# Altium footprint library footprints.PcbLib: 160 footprints (part 4 of 10)
Each footprint in its own frame and in the unit in brackets; x right, y up, seen from the top. Pads: shape width x height; smd on the part's side, far side on the other; paste and mask are expansions set on the pad; w line width, h text height; cw(c..) or ccw(c..) is an arc to the next point about the centre after c.
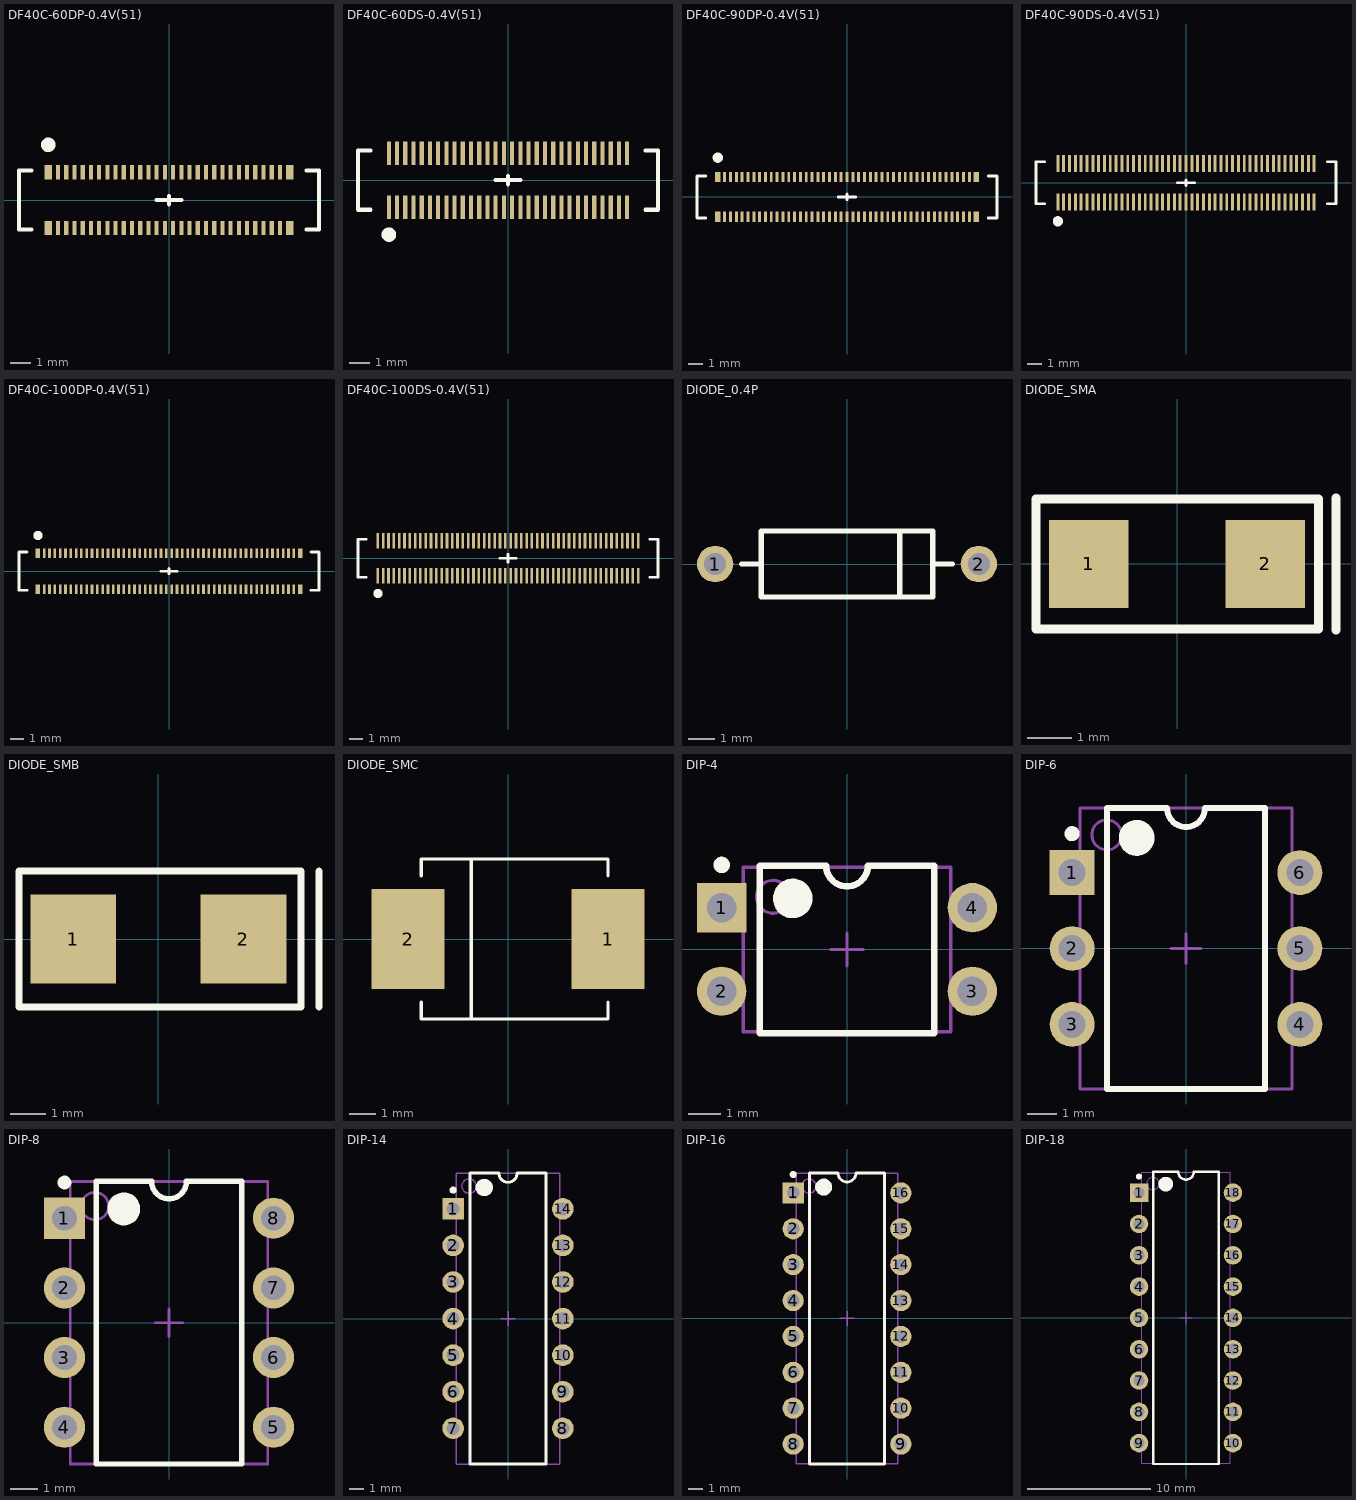
[diagram p3: the footprints below, top view; thin cyan lines are the x and y axes]

## DF40C-60DP-0.4V(51) [mm] "Board to Board Header 60pin"
height 1.14
pads (60):
  rect 0.35x0.7 smd: A1(-5.875,1.36) A30(5.875,1.36) B1(-5.875,-1.36) B30(5.875,-1.36)
  rect 0.2x0.7 smd: A2(-5.4,1.36) A3(-5,1.36) A4(-4.6,1.36) A5(-4.2,1.36) A6(-3.8,1.36) A7(-3.4,1.36) A8(-3,1.36) A9(-2.6,1.36) A10(-2.2,1.36) A11(-1.8,1.36) A12(-1.4,1.36) A13(-1,1.36) A14(-0.6,1.36) A15(-0.2,1.36) A16(0.2,1.36) A17(0.6,1.36) A18(1,1.36) A19(1.4,1.36) A20(1.8,1.36) A21(2.2,1.36) A22(2.6,1.36) A23(3,1.36) A24(3.4,1.36) A25(3.8,1.36) A26(4.2,1.36) A27(4.6,1.36) A28(5,1.36) A29(5.4,1.36) B2(-5.4,-1.36) B3(-5,-1.36) B4(-4.6,-1.36) B5(-4.2,-1.36) B6(-3.8,-1.36) B7(-3.4,-1.36) B8(-3,-1.36) B9(-2.6,-1.36) B10(-2.2,-1.36) B11(-1.8,-1.36) B12(-1.4,-1.36) B13(-1,-1.36) B14(-0.6,-1.36) B15(-0.2,-1.36) B16(0.2,-1.36) B17(0.6,-1.36) B18(1,-1.36) B19(1.4,-1.36) B20(1.8,-1.36) B21(2.2,-1.36) B22(2.6,-1.36) B23(3,-1.36) B24(3.4,-1.36) B25(3.8,-1.36) B26(4.2,-1.36) B27(4.6,-1.36) B28(5,-1.36) B29(5.4,-1.36)
Top Overlay:
  circle w0.5: c-5.875,2.69 r0.1
  lines w0.2: -6.7,-1.44 -7.3,-1.44 -7.3,1.44 -6.7,1.44 ; -0.6,0 0,0 ; 0,-0.2 0,0 ; 0,0.2 0,0 ; 0.6,0 0,0 ; 6.7,-1.44 7.3,-1.44 7.3,1.44 6.7,1.44

## DF40C-60DS-0.4V(51) [mm] "Board-to-Board Receptacle 60 pin"
pads (60):
  rect 0.2x1.14 smd: A1(-5.8,-1.32) A2(-5.4,-1.32) A3(-5,-1.32) A4(-4.6,-1.32) A5(-4.2,-1.32) A6(-3.8,-1.32) A7(-3.4,-1.32) A8(-3,-1.32) A9(-2.6,-1.32) A10(-2.2,-1.32) A11(-1.8,-1.32) A12(-1.4,-1.32) A13(-1,-1.32) A14(-0.6,-1.32) A15(-0.2,-1.32) A16(0.2,-1.32) A17(0.6,-1.32) A18(1,-1.32) A19(1.4,-1.32) A20(1.8,-1.32) A21(2.2,-1.32) A22(2.6,-1.32) A23(3,-1.32) A24(3.4,-1.32) A25(3.8,-1.32) A26(4.2,-1.32) A27(4.6,-1.32) A28(5,-1.32) A29(5.4,-1.32) A30(5.8,-1.32) B1(-5.8,1.32) B2(-5.4,1.32) B3(-5,1.32) B4(-4.6,1.32) B5(-4.2,1.32) B6(-3.8,1.32) B7(-3.4,1.32) B8(-3,1.32) B9(-2.6,1.32) B10(-2.2,1.32) B11(-1.8,1.32) B12(-1.4,1.32) B13(-1,1.32) B14(-0.6,1.32) B15(-0.2,1.32) B16(0.2,1.32) B17(0.6,1.32) B18(1,1.32) B19(1.4,1.32) B20(1.8,1.32) B21(2.2,1.32) B22(2.6,1.32) B23(3,1.32) B24(3.4,1.32) B25(3.8,1.32) B26(4.2,1.32) B27(4.6,1.32) B28(5,1.32) B29(5.4,1.32) B30(5.8,1.32)
Top Overlay:
  circle w0.5: c-5.8,-2.65 r0.1
  lines w0.2: -6.7,-1.44 -7.3,-1.44 -7.3,1.44 -6.7,1.44 ; -0.6,0 0,0 ; 0,-0.2 0,0 ; 0,0.2 0,0 ; 0.6,0 0,0 ; 6.7,-1.44 7.3,-1.44 7.3,1.44 6.7,1.44

## DF40C-90DP-0.4V(51) [mm] "Board to Board Header 90pin"
height 1.14
pads (90):
  rect 0.35x0.7 smd: A1(-8.875,1.36) A45(8.875,1.36) B1(-8.875,-1.36) B45(8.875,-1.36)
  rect 0.2x0.7 smd: A2(-8.4,1.36) A3(-8,1.36) A4(-7.6,1.36) A5(-7.2,1.36) A6(-6.8,1.36) A7(-6.4,1.36) A8(-6,1.36) A9(-5.6,1.36) A10(-5.2,1.36) A11(-4.8,1.36) A12(-4.4,1.36) A13(-4,1.36) A14(-3.6,1.36) A15(-3.2,1.36) A16(-2.8,1.36) A17(-2.4,1.36) A18(-2,1.36) A19(-1.6,1.36) A20(-1.2,1.36) A21(-0.8,1.36) A22(-0.4,1.36) A23(0,1.36) A24(0.4,1.36) A25(0.8,1.36) A26(1.2,1.36) A27(1.6,1.36) A28(2,1.36) A29(2.4,1.36) A30(2.8,1.36) A31(3.2,1.36) A32(3.6,1.36) A33(4,1.36) A34(4.4,1.36) A35(4.8,1.36) A36(5.2,1.36) A37(5.6,1.36) A38(6,1.36) A39(6.4,1.36) A40(6.8,1.36) A41(7.2,1.36) A42(7.6,1.36) A43(8,1.36) A44(8.4,1.36) B2(-8.4,-1.36) B3(-8,-1.36) B4(-7.6,-1.36) B5(-7.2,-1.36) B6(-6.8,-1.36) B7(-6.4,-1.36) B8(-6,-1.36) B9(-5.6,-1.36) B10(-5.2,-1.36) B11(-4.8,-1.36) B12(-4.4,-1.36) B13(-4,-1.36) B14(-3.6,-1.36) B15(-3.2,-1.36) B16(-2.8,-1.36) B17(-2.4,-1.36) B18(-2,-1.36) B19(-1.6,-1.36) B20(-1.2,-1.36) B21(-0.8,-1.36) B22(-0.4,-1.36) B23(0,-1.36) B24(0.4,-1.36) B25(0.8,-1.36) B26(1.2,-1.36) B27(1.6,-1.36) B28(2,-1.36) B29(2.4,-1.36) B30(2.8,-1.36) B31(3.2,-1.36) B32(3.6,-1.36) B33(4,-1.36) B34(4.4,-1.36) B35(4.8,-1.36) B36(5.2,-1.36) B37(5.6,-1.36) B38(6,-1.36) B39(6.4,-1.36) B40(6.8,-1.36) B41(7.2,-1.36) B42(7.6,-1.36) B43(8,-1.36) B44(8.4,-1.36)
Top Overlay:
  circle w0.5: c-8.875,2.69 r0.1
  lines w0.2: -9.7,-1.44 -10.3,-1.44 -10.3,1.44 -9.7,1.44 ; -0.6,0 0,0 ; 0,-0.2 0,0 ; 0,0.2 0,0 ; 0.6,0 0,0 ; 9.7,-1.44 10.3,-1.44 10.3,1.44 9.7,1.44

## DF40C-90DS-0.4V(51) [mm] "Board-to-Board Receptacle 90 pin"
pads (90):
  rect 0.2x1.14 smd: A1(-8.8,-1.32) A2(-8.4,-1.32) A3(-8,-1.32) A4(-7.6,-1.32) A5(-7.2,-1.32) A6(-6.8,-1.32) A7(-6.4,-1.32) A8(-6,-1.32) A9(-5.6,-1.32) A10(-5.2,-1.32) A11(-4.8,-1.32) A12(-4.4,-1.32) A13(-4,-1.32) A14(-3.6,-1.32) A15(-3.2,-1.32) A16(-2.8,-1.32) A17(-2.4,-1.32) A18(-2,-1.32) A19(-1.6,-1.32) A20(-1.2,-1.32) A21(-0.8,-1.32) A22(-0.4,-1.32) A23(0,-1.32) A24(0.4,-1.32) A25(0.8,-1.32) A26(1.2,-1.32) A27(1.6,-1.32) A28(2,-1.32) A29(2.4,-1.32) A30(2.8,-1.32) A31(3.2,-1.32) A32(3.6,-1.32) A33(4,-1.32) A34(4.4,-1.32) A35(4.8,-1.32) A36(5.2,-1.32) A37(5.6,-1.32) A38(6,-1.32) A39(6.4,-1.32) A40(6.8,-1.32) A41(7.2,-1.32) A42(7.6,-1.32) A43(8,-1.32) A44(8.4,-1.32) A45(8.8,-1.32) B1(-8.8,1.32) B2(-8.4,1.32) B3(-8,1.32) B4(-7.6,1.32) B5(-7.2,1.32) B6(-6.8,1.32) B7(-6.4,1.32) B8(-6,1.32) B9(-5.6,1.32) B10(-5.2,1.32) B11(-4.8,1.32) B12(-4.4,1.32) B13(-4,1.32) B14(-3.6,1.32) B15(-3.2,1.32) B16(-2.8,1.32) B17(-2.4,1.32) B18(-2,1.32) B19(-1.6,1.32) B20(-1.2,1.32) B21(-0.8,1.32) B22(-0.4,1.32) B23(0,1.32) B24(0.4,1.32) B25(0.8,1.32) B26(1.2,1.32) B27(1.6,1.32) B28(2,1.32) B29(2.4,1.32) B30(2.8,1.32) B31(3.2,1.32) B32(3.6,1.32) B33(4,1.32) B34(4.4,1.32) B35(4.8,1.32) B36(5.2,1.32) B37(5.6,1.32) B38(6,1.32) B39(6.4,1.32) B40(6.8,1.32) B41(7.2,1.32) B42(7.6,1.32) B43(8,1.32) B44(8.4,1.32) B45(8.8,1.32)
Top Overlay:
  circle w0.5: c-8.8,-2.65 r0.1
  lines w0.2: -9.7,-1.44 -10.3,-1.44 -10.3,1.44 -9.7,1.44 ; -0.6,0 0,0 ; 0,-0.2 0,0 ; 0,0.2 0,0 ; 0.6,0 0,0 ; 9.7,-1.44 10.3,-1.44 10.3,1.44 9.7,1.44

## DF40C-100DP-0.4V(51) [mm] "Board to Board Header 100 pin"
height 1.14
pads (100):
  rect 0.35x0.7 smd: A1(-9.875,1.36) A50(9.875,1.36) B1(-9.875,-1.36) B50(9.875,-1.36)
  rect 0.2x0.7 smd: A2(-9.4,1.36) A3(-9,1.36) A4(-8.6,1.36) A5(-8.2,1.36) A6(-7.8,1.36) A7(-7.4,1.36) A8(-7,1.36) A9(-6.6,1.36) A10(-6.2,1.36) A11(-5.8,1.36) A12(-5.4,1.36) A13(-5,1.36) A14(-4.6,1.36) A15(-4.2,1.36) A16(-3.8,1.36) A17(-3.4,1.36) A18(-3,1.36) A19(-2.6,1.36) A20(-2.2,1.36) A21(-1.8,1.36) A22(-1.4,1.36) A23(-1,1.36) A24(-0.6,1.36) A25(-0.2,1.36) A26(0.2,1.36) A27(0.6,1.36) A28(1,1.36) A29(1.4,1.36) A30(1.8,1.36) A31(2.2,1.36) A32(2.6,1.36) A33(3,1.36) A34(3.4,1.36) A35(3.8,1.36) A36(4.2,1.36) A37(4.6,1.36) A38(5,1.36) A39(5.4,1.36) A40(5.8,1.36) A41(6.2,1.36) A42(6.6,1.36) A43(7,1.36) A44(7.4,1.36) A45(7.8,1.36) A46(8.2,1.36) A47(8.6,1.36) A48(9,1.36) A49(9.4,1.36) B2(-9.4,-1.36) B3(-9,-1.36) B4(-8.6,-1.36) B5(-8.2,-1.36) B6(-7.8,-1.36) B7(-7.4,-1.36) B8(-7,-1.36) B9(-6.6,-1.36) B10(-6.2,-1.36) B11(-5.8,-1.36) B12(-5.4,-1.36) B13(-5,-1.36) B14(-4.6,-1.36) B15(-4.2,-1.36) B16(-3.8,-1.36) B17(-3.4,-1.36) B18(-3,-1.36) B19(-2.6,-1.36) B20(-2.2,-1.36) B21(-1.8,-1.36) B22(-1.4,-1.36) B23(-1,-1.36) B24(-0.6,-1.36) B25(-0.2,-1.36) B26(0.2,-1.36) B27(0.6,-1.36) B28(1,-1.36) B29(1.4,-1.36) B30(1.8,-1.36) B31(2.2,-1.36) B32(2.6,-1.36) B33(3,-1.36) B34(3.4,-1.36) B35(3.8,-1.36) B36(4.2,-1.36) B37(4.6,-1.36) B38(5,-1.36) B39(5.4,-1.36) B40(5.8,-1.36) B41(6.2,-1.36) B42(6.6,-1.36) B43(7,-1.36) B44(7.4,-1.36) B45(7.8,-1.36) B46(8.2,-1.36) B47(8.6,-1.36) B48(9,-1.36) B49(9.4,-1.36)
Top Overlay:
  circle w0.5: c-9.875,2.69 r0.1
  lines w0.2: -10.7,-1.44 -11.3,-1.44 -11.3,1.44 -10.7,1.44 ; -0.6,0 0,0 ; 0,-0.2 0,0 ; 0,0.2 0,0 ; 0.6,0 0,0 ; 10.7,-1.44 11.3,-1.44 11.3,1.44 10.7,1.44

## DF40C-100DS-0.4V(51) [mm] "Board-to-Board Receptacle 100 pin"
pads (100):
  rect 0.2x1.14 smd: A1(-9.8,-1.32) A2(-9.4,-1.32) A3(-9,-1.32) A4(-8.6,-1.32) A5(-8.2,-1.32) A6(-7.8,-1.32) A7(-7.4,-1.32) A8(-7,-1.32) A9(-6.6,-1.32) A10(-6.2,-1.32) A11(-5.8,-1.32) A12(-5.4,-1.32) A13(-5,-1.32) A14(-4.6,-1.32) A15(-4.2,-1.32) A16(-3.8,-1.32) A17(-3.4,-1.32) A18(-3,-1.32) A19(-2.6,-1.32) A20(-2.2,-1.32) A21(-1.8,-1.32) A22(-1.4,-1.32) A23(-1,-1.32) A24(-0.6,-1.32) A25(-0.2,-1.32) A26(0.2,-1.32) A27(0.6,-1.32) A28(1,-1.32) A29(1.4,-1.32) A30(1.8,-1.32) A31(2.2,-1.32) A32(2.6,-1.32) A33(3,-1.32) A34(3.4,-1.32) A35(3.8,-1.32) A36(4.2,-1.32) A37(4.6,-1.32) A38(5,-1.32) A39(5.4,-1.32) A40(5.8,-1.32) A41(6.2,-1.32) A42(6.6,-1.32) A43(7,-1.32) A44(7.4,-1.32) A45(7.8,-1.32) A46(8.2,-1.32) A47(8.6,-1.32) A48(9,-1.32) A49(9.4,-1.32) A50(9.8,-1.32) B1(-9.8,1.32) B2(-9.4,1.32) B3(-9,1.32) B4(-8.6,1.32) B5(-8.2,1.32) B6(-7.8,1.32) B7(-7.4,1.32) B8(-7,1.32) B9(-6.6,1.32) B10(-6.2,1.32) B11(-5.8,1.32) B12(-5.4,1.32) B13(-5,1.32) B14(-4.6,1.32) B15(-4.2,1.32) B16(-3.8,1.32) B17(-3.4,1.32) B18(-3,1.32) B19(-2.6,1.32) B20(-2.2,1.32) B21(-1.8,1.32) B22(-1.4,1.32) B23(-1,1.32) B24(-0.6,1.32) B25(-0.2,1.32) B26(0.2,1.32) B27(0.6,1.32) B28(1,1.32) B29(1.4,1.32) B30(1.8,1.32) B31(2.2,1.32) B32(2.6,1.32) B33(3,1.32) B34(3.4,1.32) B35(3.8,1.32) B36(4.2,1.32) B37(4.6,1.32) B38(5,1.32) B39(5.4,1.32) B40(5.8,1.32) B41(6.2,1.32) B42(6.6,1.32) B43(7,1.32) B44(7.4,1.32) B45(7.8,1.32) B46(8.2,1.32) B47(8.6,1.32) B48(9,1.32) B49(9.4,1.32) B50(9.8,1.32)
Top Overlay:
  circle w0.5: c-9.8,-2.65 r0.1
  lines w0.2: -10.7,-1.44 -11.3,-1.44 -11.3,1.44 -10.7,1.44 ; -0.6,0 0,0 ; 0,-0.3 0,0 ; 0,0.3 0,0 ; 0.6,0 0,0 ; 10.7,-1.44 11.3,-1.44 11.3,1.44 10.7,1.44

## DIODE_0.4P [mm] "Diode, Thru-Hole; 2 Leads; 0.4 in Pin Spacing"
height 2.54
pads (2):
  round 1.4 hole 0.85: 1(-5.08,0) 2(5.08,0)
Top Overlay:
  lines w0.2: -4.064,0 -3.302,0 ; 2.032,-1.27 2.032,1.27 ; 3.302,0 4.064,0 ; -3.302,-1.27 3.302,-1.27 3.302,1.27 -3.302,1.27 -3.302,-1.27

## DIODE_SMA [mm]
pads (2):
  rect 1.8x2 smd: 1(-2,0) 2(2,0)
Top Overlay:
  lines w0.2: 3.6,-1.5 3.6,1.5 ; -3.2,-1.475 -3.2,1.475 3.2,1.475 3.2,-1.475 -3.2,-1.475

## DIODE_SMB [mm]
pads (2):
  rect 2.4x2.5 smd: 1(-2.385,0) 2(2.385,0)
Top Overlay:
  lines w0.2: 4.5,-1.9 4.5,1.9 ; -3.9,-1.9 -3.9,1.615 -3.9,1.9 4,1.9 4,-1.9 -3.9,-1.9

## DIODE_SMC [mil] "Diode; 2 Leads"
pads (2):
  rect 110x150 smd: 1(150,0) 2(-150,0)
Top Overlay:
  lines w5: -130,-95 -130,-120 150,-120 150,-95 ; -130,95 -130,120 150,120 150,95 ; -55,-120 -55,120
Mechanical 1:
  lines w1: -130,-120 150,-120 ; -130,120 150,120

## DIP-4 [mm] "DIP; 4 Leads; Row Spacing 7.62 mm; Pitch 2.54 mm"
height 5.6
pads (4):
  rect 1.5x1.5 hole 0.9: 1(-3.81,1.27)
  round 1.5 hole 0.9: 2(-3.81,-1.27) 3(3.81,-1.27) 4(3.81,1.27)
Top Overlay:
  circle w0.25: c-3.81,2.57 r0.125
  circle w0.6: c-1.65,1.55 r0.3
  lines w0.2: -2.65,-2.55 -2.65,2.55 -0.635,2.55 ccw(c0,2.55) 0.635,2.55 2.65,2.55 2.65,-2.55 -2.65,-2.55
Mechanical 13:
  circle w0.1: c-2.25,1.6 r0.5
  lines w0.1: -3.15,-2.5 -3.15,2.5 3.15,2.5 3.15,-2.5 -3.15,-2.5
Mechanical 15:
  lines w0.1: -0.5,0 0.5,0 ; 0,-0.5 0,0.5
3D body: height 5.6, standoff 0, extent -3.15,-2.5 3.15,2.5

## DIP-6 [mm] "DIP; 6 Leads; Row Spacing 7.62 mm; Pitch 2.54 mm"
height 5.46
pads (6):
  rect 1.5x1.5 hole 0.9: 1(-3.81,2.54)
  round 1.5 hole 0.9: 2(-3.81,0) 3(-3.81,-2.54) 4(3.81,-2.54) 5(3.81,0) 6(3.81,2.54)
Top Overlay:
  circle w0.6: c-1.65,3.7 r0.3
  circle w0.25: c-3.81,3.84 r0.125
  lines w0.2: -2.65,-4.7 2.65,-4.7 2.65,4.7 0.635,4.7 cw(c0,4.7) -0.635,4.7 -2.65,4.7 -2.65,-4.7
Mechanical 13:
  circle w0.1: c-2.65,3.8 r0.5
  lines w0.1: -3.55,-4.7 3.55,-4.7 3.55,4.7 -3.55,4.7 -3.55,-4.7
Mechanical 15:
  lines w0.1: -0.5,0 0.5,0 ; 0,-0.5 0,0.5
3D body: height 5.46, standoff 0, extent -3.55,-4.7 3.55,4.7

## DIP-8 [mm] "DIP; 8 Leads; Row Spacing 7.62 mm; Pitch 2.54 mm"
height 5.08
pads (8):
  rect 1.5x1.5 hole 0.9: 1(-3.81,3.81)
  round 1.5 hole 0.9: 2(-3.81,1.27) 3(-3.81,-1.27) 4(-3.81,-3.81) 5(3.81,-3.81) 6(3.81,-1.27) 7(3.81,1.27) 8(3.81,3.81)
Top Overlay:
  circle w0.6: c-1.65,4.15 r0.3
  circle w0.25: c-3.81,5.11 r0.125
  lines w0.2: -2.65,-5.15 2.65,-5.15 2.65,5.15 0.635,5.15 cw(c0,5.15) -0.635,5.15 -2.65,5.15 -2.65,-5.15
Mechanical 13:
  circle w0.1: c-2.7,4.25 r0.5
  lines w0.1: -3.6,-5.15 3.6,-5.15 3.6,5.15 -3.6,5.15 -3.6,-5.15
Mechanical 15:
  lines w0.1: -0.5,0 0.5,0 ; 0,-0.5 0,0.5
3D body: height 5.08, standoff 0, extent -3.6,-5.15 3.6,5.15

## DIP-14 [mm] "DIP; 14 Leads; Row Spacing 7.62 mm; Pitch 2.54 mm"
height 5.08
pads (14):
  rect 1.5x1.5 hole 0.9: 1(-3.81,7.62)
  round 1.5 hole 0.9: 2(-3.81,5.08) 3(-3.81,2.54) 4(-3.81,0) 5(-3.81,-2.54) 6(-3.81,-5.08) 7(-3.81,-7.62) 8(3.81,-7.62) 9(3.81,-5.08) 10(3.81,-2.54) 11(3.81,0) 12(3.81,2.54) 13(3.81,5.08) 14(3.81,7.62)
Top Overlay:
  circle w0.6: c-1.65,9.1 r0.3
  circle w0.25: c-3.81,8.92 r0.125
  lines w0.2: -2.65,-10.1 2.65,-10.1 2.65,10.1 0.635,10.1 cw(c0,10.1) -0.635,10.1 -2.65,10.1 -2.65,-10.1
Mechanical 13:
  circle w0.1: c-2.7,9.2 r0.5
  lines w0.1: -3.6,-10.1 3.6,-10.1 3.6,10.1 -3.6,10.1 -3.6,-10.1
Mechanical 15:
  lines w0.1: -0.5,0 0.5,0 ; 0,-0.5 0,0.5
3D body: height 5.08, standoff 0, extent -3.6,-10.1 3.6,10.1

## DIP-16 [mm] "DIP; 16 Leads; Row Spacing 7.62 mm; Pitch 2.54 mm"
height 5.08
pads (16):
  rect 1.5x1.5 hole 0.9: 1(-3.81,8.89)
  round 1.5 hole 0.9: 2(-3.81,6.35) 3(-3.81,3.81) 4(-3.81,1.27) 5(-3.81,-1.27) 6(-3.81,-3.81) 7(-3.81,-6.35) 8(-3.81,-8.89) 9(3.81,-8.89) 10(3.81,-6.35) 11(3.81,-3.81) 12(3.81,-1.27) 13(3.81,1.27) 14(3.81,3.81) 15(3.81,6.35) 16(3.81,8.89)
Top Overlay:
  circle w0.25: c-3.81,10.19 r0.125
  circle w0.6: c-1.65,9.3 r0.3
  lines w0.2: -2.65,-10.3 -2.65,10.3 -0.635,10.3 ccw(c0,10.3) 0.635,10.3 2.65,10.3 2.65,-10.3 -2.65,-10.3
Mechanical 13:
  circle w0.1: c-2.7,9.375 r0.5
  lines w0.1: -3.6,-10.275 -3.6,10.275 3.6,10.275 3.6,-10.275 -3.6,-10.275
Mechanical 15:
  lines w0.1: -0.5,0 0.5,0 ; 0,-0.5 0,0.5
3D body: height 5.08, standoff 0, extent -3.6,-10.275 3.6,10.275

## DIP-18 [mm] "DIP; 18 Leads; Row Spacing 7.62 mm; Pitch 2.54 mm"
height 5.08
pads (18):
  rect 1.5x1.5 hole 0.9: 1(-3.81,10.16)
  round 1.5 hole 0.9: 2(-3.81,7.62) 3(-3.81,5.08) 4(-3.81,2.54) 5(-3.81,0) 6(-3.81,-2.54) 7(-3.81,-5.08) 8(-3.81,-7.62) 9(-3.81,-10.16) 10(3.81,-10.16) 11(3.81,-7.62) 12(3.81,-5.08) 13(3.81,-2.54) 14(3.81,0) 15(3.81,2.54) 16(3.81,5.08) 17(3.81,7.62) 18(3.81,10.16)
Top Overlay:
  circle w0.6: c-1.65,10.85 r0.3
  circle w0.25: c-3.81,11.46 r0.125
  lines w0.2: -2.65,-11.85 2.65,-11.85 2.65,11.85 0.635,11.85 cw(c0,11.85) -0.635,11.85 -2.65,11.85 -2.65,-11.85
Mechanical 13:
  circle w0.1: c-2.7,10.9 r0.5
  lines w0.1: -3.6,-11.8 3.6,-11.8 3.6,11.8 -3.6,11.8 -3.6,-11.8
Mechanical 15:
  lines w0.1: -0.5,0 0.5,0 ; 0,-0.5 0,0.5
3D body: height 5.08, standoff 0, extent -3.6,-11.8 3.6,11.8